# Altium integrated library Micron Memory Mobile LPDRAM.IntLib: 146 symbols (part 12 of 41)
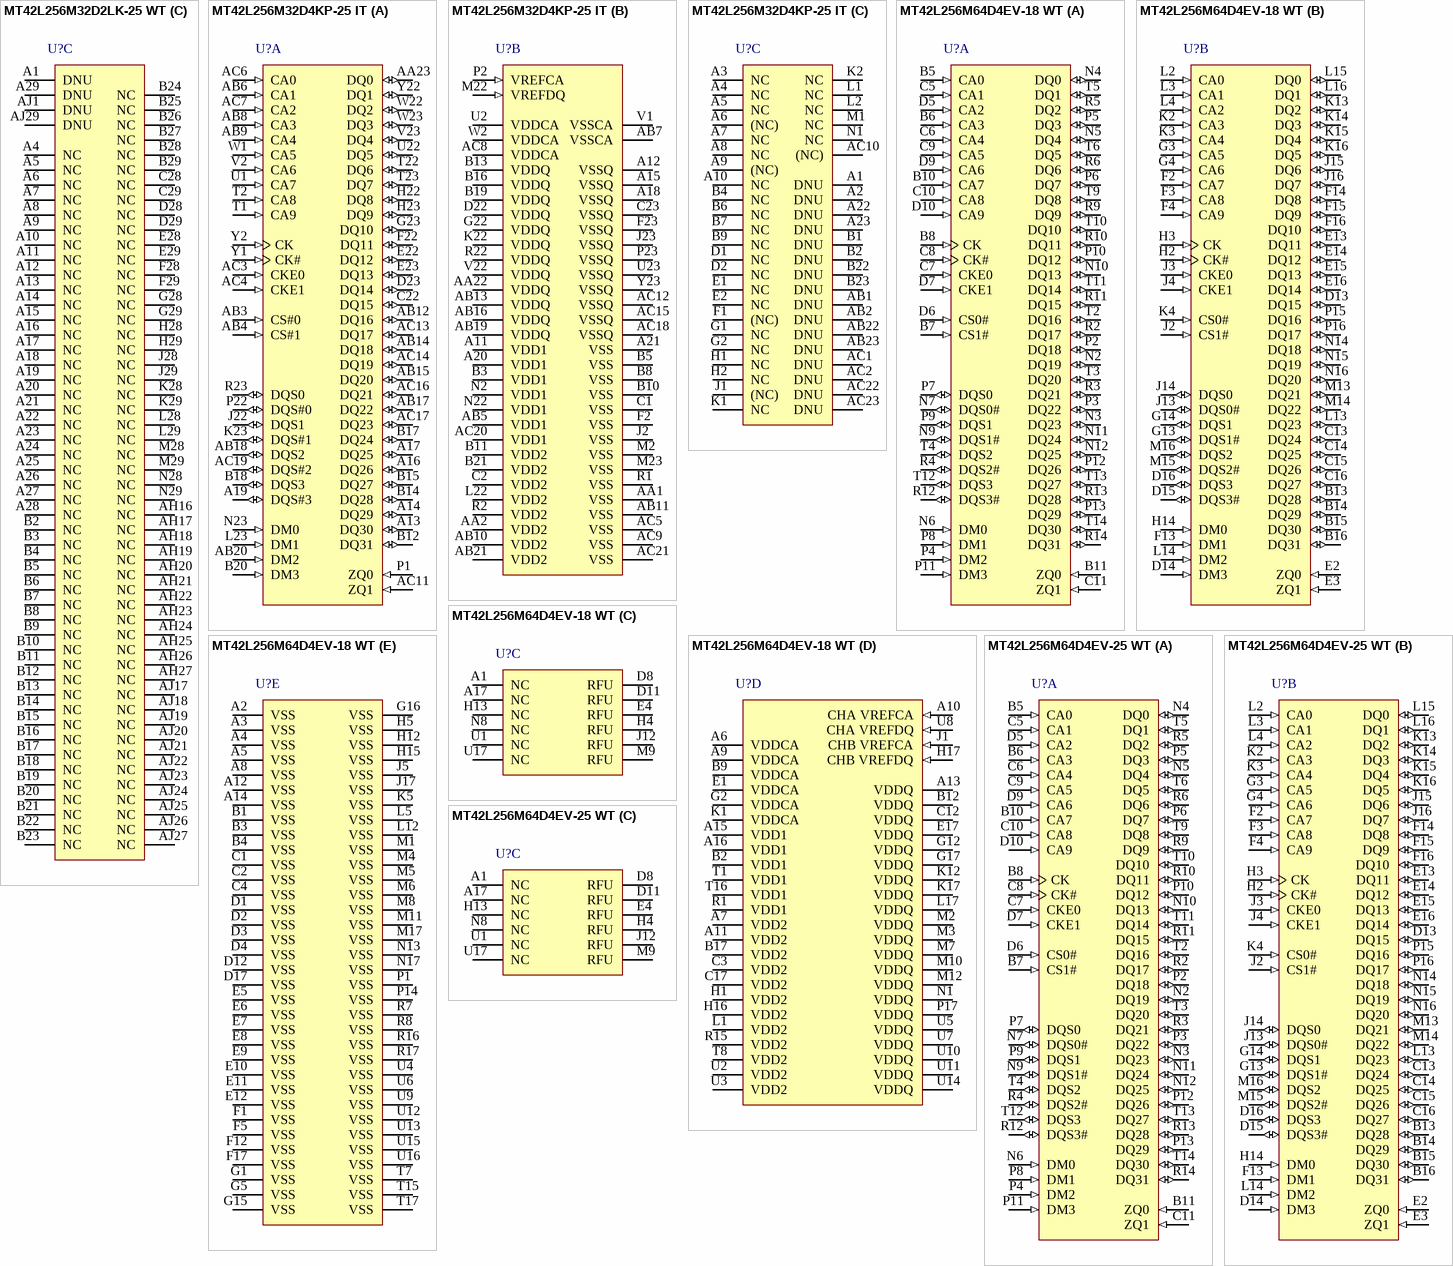
[diagram p35: symbols MT42L256M32D2LK-25 WT to MT42L256M64D4EV-25 WT]

## MT42L256M64D4EV-18 WT
designator U?
16Gb LPDDR2-1066 SDRAM, 256Mb x 64, 1.875ns, 1.2V, -25 to 85 degC, 253-Ball VFBGA, Pb-Free; Manufacturer: Micron; PartNumber: MT42L256M64D4EV-18 WT; Clock Rate: 533 MHz; Op. Temp.: -25C to +85C; DatasheetVersion: Rev.L; PackageVersion: Rev.L; PackageReference: MICT-EV-253; PackageDescription: 253-Ball Fine-Pitch Ball Grid Array, 11 x 11 mm, Pitch 0.5 mm; Cycle Time: 1.875ns; Data Rate: LPDDR2-1066; Density: 16Gb; Depth: 256Mb; Package: VFBGA; Part Status: Sampling; Pin Count: 253-ball; RoHS: Green; Technology: Mobile LPDDR2; Voltage: 1.2V; Width: x64; Mounting Technology: Surface Mount; ComponentLink1Description: Manufacturer URL; ComponentLink1URL: http://www.micron.com/; ComponentLink2Description: Datasheet; ComponentLink2URL: http://www.micron.com/~/media/Documents/Products/Data%20Sheet/DRAM/Mobile%20DRAM/Low-Power%20DRAM/LPDDR2/U80M_4Gb_mobile_lpddr2_s4_sdram.pdf; ComponentLink3Description: Package Specification; ComponentLink3URL: http://www.micron.com/~/media/Documents/Products/Data%20Sheet/DRAM/Mobile%20DRAM/Low-Power%20DRAM/LPDDR2/U80M_4Gb_mobile_lpddr2_s4_sdram.pdf
footprint MICT-EV-253 (BGB, 253-Balls, Body 11x11mm, Pitch 0.5mm)
part A pins: B5 CA0 (in) "Command/address inputs: Provide the command and address inputs according to the command truth table.", B6 CA3 (in) "Command/address inputs: Provide the command and address inputs according to the command truth table.", B7 CS1# (in) "Chip select: CS# is considered part of the command code and is sampled at the rising edge of CK.", B8 CK (in) "Clock: CK and CK# are differential clock inputs. All CA inputs are sampled on both rising and falling edges of CK. CS and CKE inputs are sampled at the rising edge of CK. AC timings are referenced to clock.", B10 CA7 (in) "Command/address inputs: Provide the command and address inputs according to the command truth table.", B11 ZQ0 (in) "External impedance (240 ohm): This signal is used to calibrate the device output impedance.", C5 CA1 (in) "Command/address inputs: Provide the command and address inputs according to the command truth table.", C6 CA4 (in) "Command/address inputs: Provide the command and address inputs according to the command truth table.", C7 CKE0 (in) "Clock enable: CKE HIGH activates and CKE LOW deactivates the internal clock signals, input buffers, and output drivers. Power-saving modes are entered and exited via CKE transitions. CKE is considered part of the command (See Datasheet)", C8 CK# (in) "Clock: CK and CK# are differential clock inputs. All CA inputs are sampled on both rising and falling edges of CK. CS and CKE inputs are sampled at the rising edge of CK. AC timings are referenced to clock.", C9 CA5 (in) "Command/address inputs: Provide the command and address inputs according to the command truth table.", C10 CA8 (in) "Command/address inputs: Provide the command and address inputs according to the command truth table.", C11 ZQ1 (in) "External impedance (240 ohm): This signal is used to calibrate the device output impedance.", D5 CA2 (in) "Command/address inputs: Provide the command and address inputs according to the command truth table.", D6 CS0# (in) "Data strobe: The data strobe is bidirectional (used for read and write data) and complementary (DQS and DQS#). It is edge-aligned output with read data and centered input with write data. DQS[3:0]/DQS[3:0]# is DQS for each (See Datasheet)", D7 CKE1 (in) "Clock enable: CKE HIGH activates and CKE LOW deactivates the internal clock signals, input buffers, and output drivers. Power-saving modes are entered and exited via CKE transitions. CKE is considered part of the command (See Datasheet)", D9 CA6 (in) "Command/address inputs: Provide the command and address inputs according to the command truth table.", D10 CA9 (in) "Command/address inputs: Provide the command and address inputs according to the command truth table.", N2 DQ19 (io) "Data input/output: Bidirectional data bus.", N3 DQ23 (io) "Data input/output: Bidirectional data bus.", N4 DQ0 (io) "Data input/output: Bidirectional data bus.", N5 DQ4 (io) "Data input/output: Bidirectional data bus.", N6 DM0 (in) "Input data mask: DM is an input mask signal for write data. Although DM balls are input-only, the DM loading is designed to match that of DQ and DQS balls. DM[3:0] is DM for each of the four data bytes, respectively.", N7 DQS0# (io) "Data strobe: The data strobe is bidirectional (used for read and write data) and complementary (DQS and DQS#). It is edge-aligned output with read data and centered input with write data. DQS[3:0]/DQS[3:0]# is DQS for each (See Datasheet)", N9 DQS1# (io) "Data strobe: The data strobe is bidirectional (used for read and write data) and complementary (DQS and DQS#). It is edge-aligned output with read data and centered input with write data. DQS[3:0]/DQS[3:0]# is DQS for each (See Datasheet)", N10 DQ13 (io) "Data input/output: Bidirectional data bus.", N11 DQ24 (io) "Data input/output: Bidirectional data bus.", N12 DQ25 (io) "Data input/output: Bidirectional data bus.", P2 DQ18 (io) "Data input/output: Bidirectional data bus.", P3 DQ22 (io) "Data input/output: Bidirectional data bus.", P4 DM2 (in) "Input data mask: DM is an input mask signal for write data. Although DM balls are input-only, the DM loading is designed to match that of DQ and DQS balls. DM[3:0] is DM for each of the four data bytes, respectively.", P5 DQ3 (io) "Data input/output: Bidirectional data bus.", P6 DQ7 (io) "Data input/output: Bidirectional data bus.", P7 DQS0 (io) "Data strobe: The data strobe is bidirectional (used for read and write data) and complementary (DQS and DQS#). It is edge-aligned output with read data and centered input with write data. DQS[3:0]/DQS[3:0]# is DQS for each (See Datasheet)", P8 DM1 (in) "Input data mask: DM is an input mask signal for write data. Although DM balls are input-only, the DM loading is designed to match that of DQ and DQS balls. DM[3:0] is DM for each of the four data bytes, respectively.", P9 DQS1 (io) "Data strobe: The data strobe is bidirectional (used for read and write data) and complementary (DQS and DQS#). It is edge-aligned output with read data and centered input with write data. DQS[3:0]/DQS[3:0]# is DQS for each (See Datasheet)", P10 DQ12 (io) "Data input/output: Bidirectional data bus.", P11 DM3 (in) "Input data mask: DM is an input mask signal for write data. Although DM balls are input-only, the DM loading is designed to match that of DQ and DQS balls. DM[3:0] is DM for each of the four data bytes, respectively.", P12 DQ26 (io) "Data input/output: Bidirectional data bus.", P13 DQ29 (io) "Data input/output: Bidirectional data bus.", R2 DQ17 (io) "Data input/output: Bidirectional data bus.", R3 DQ21 (io) "Data input/output: Bidirectional data bus.", R4 DQS2# (io) "Data strobe: The data strobe is bidirectional (used for read and write data) and complementary (DQS and DQS#). It is edge-aligned output with read data and centered input with write data. DQS[3:0]/DQS[3:0]# is DQS for each (See Datasheet)", R5 DQ2 (io) "Data input/output: Bidirectional data bus.", R6 DQ6 (io) "Data input/output: Bidirectional data bus.", R9 DQ9 (io) "Data input/output: Bidirectional data bus.", R10 DQ11 (io) "Data input/output: Bidirectional data bus.", R11 DQ15 (io) "Data input/output: Bidirectional data bus.", R12 DQS3# (io) "Data strobe: The data strobe is bidirectional (used for read and write data) and complementary (DQS and DQS#). It is edge-aligned output with read data and centered input with write data. DQS[3:0]/DQS[3:0]# is DQS for each (See Datasheet)", R13 DQ28 (io) "Data input/output: Bidirectional data bus.", R14 DQ31 (io) "Data input/output: Bidirectional data bus.", T2 DQ16 (io) "Data input/output: Bidirectional data bus.", T3 DQ20 (io) "Data input/output: Bidirectional data bus.", T4 DQS2 (io) "Data strobe: The data strobe is bidirectional (used for read and write data) and complementary (DQS and DQS#). It is edge-aligned output with read data and centered input with write data. DQS[3:0]/DQS[3:0]# is DQS for each (See Datasheet)", T5 DQ1 (io) "Data input/output: Bidirectional data bus.", T6 DQ5 (io) "Data input/output: Bidirectional data bus.", T9 DQ8 (io) "Data input/output: Bidirectional data bus.", T10 DQ10 (io) "Data input/output: Bidirectional data bus.", T11 DQ14 (io) "Data input/output: Bidirectional data bus.", T12 DQS3 (io) "Data strobe: The data strobe is bidirectional (used for read and write data) and complementary (DQS and DQS#). It is edge-aligned output with read data and centered input with write data. DQS[3:0]/DQS[3:0]# is DQS for each (See Datasheet)", T13 DQ27 (io) "Data input/output: Bidirectional data bus.", T14 DQ30 (io) "Data input/output: Bidirectional data bus."
part B pins: B13 DQ28 (io) "Data input/output: Bidirectional data bus.", B14 DQ29 (io) "Data input/output: Bidirectional data bus.", B15 DQ30 (io) "Data input/output: Bidirectional data bus.", B16 DQ31 (io) "Data input/output: Bidirectional data bus.", C13 DQ24 (io) "Data input/output: Bidirectional data bus.", C14 DQ25 (io) "Data input/output: Bidirectional data bus.", C15 DQ26 (io) "Data input/output: Bidirectional data bus.", C16 DQ27 (io) "Data input/output: Bidirectional data bus.", D13 DQ15 (io) "Data input/output: Bidirectional data bus.", D14 DM3 (in) "Input data mask: DM is an input mask signal for write data. Although DM balls are input-only, the DM loading is designed to match that of DQ and DQS balls. DM[3:0] is DM for each of the four data bytes, respectively.", D15 DQS3# (io) "Data strobe: The data strobe is bidirectional (used for read and write data) and complementary (DQS and DQS#). It is edge-aligned output with read data and centered input with write data. DQS[3:0]/DQS[3:0]# is DQS for each (See Datasheet)", D16 DQS3 (io) "Data strobe: The data strobe is bidirectional (used for read and write data) and complementary (DQS and DQS#). It is edge-aligned output with read data and centered input with write data. DQS[3:0]/DQS[3:0]# is DQS for each (See Datasheet)", E2 ZQ0 (in) "External impedance (240 ohm): This signal is used to calibrate the device output impedance.", E3 ZQ1 (in) "External impedance (240 ohm): This signal is used to calibrate the device output impedance.", E13 DQ11 (io) "Data input/output: Bidirectional data bus.", E14 DQ12 (io) "Data input/output: Bidirectional data bus.", E15 DQ13 (io) "Data input/output: Bidirectional data bus.", E16 DQ14 (io) "Data input/output: Bidirectional data bus.", F2 CA7 (in) "Command/address inputs: Provide the command and address inputs according to the command truth table.", F3 CA8 (in) "Command/address inputs: Provide the command and address inputs according to the command truth table.", F4 CA9 (in) "Command/address inputs: Provide the command and address inputs according to the command truth table.", F13 DM1 (in) "Input data mask: DM is an input mask signal for write data. Although DM balls are input-only, the DM loading is designed to match that of DQ and DQS balls. DM[3:0] is DM for each of the four data bytes, respectively.", F14 DQ8 (io) "Data input/output: Bidirectional data bus.", F15 DQ9 (io) "Data input/output: Bidirectional data bus.", F16 DQ10 (io) "Data input/output: Bidirectional data bus.", G3 CA5 (in) "Command/address inputs: Provide the command and address inputs according to the command truth table.", G4 CA6 (in) "Command/address inputs: Provide the command and address inputs according to the command truth table.", G13 DQS1# (io) "Data strobe: The data strobe is bidirectional (used for read and write data) and complementary (DQS and DQS#). It is edge-aligned output with read data and centered input with write data. DQS[3:0]/DQS[3:0]# is DQS for each (See Datasheet)", G14 DQS1 (io) "Data strobe: The data strobe is bidirectional (used for read and write data) and complementary (DQS and DQS#). It is edge-aligned output with read data and centered input with write data. DQS[3:0]/DQS[3:0]# is DQS for each (See Datasheet)", H2 CK# (in) "Clock: CK and CK# are differential clock inputs. All CA inputs are sampled on both rising and falling edges of CK. CS and CKE inputs are sampled at the rising edge of CK. AC timings are referenced to clock.", H3 CK (in) "Clock: CK and CK# are differential clock inputs. All CA inputs are sampled on both rising and falling edges of CK. CS and CKE inputs are sampled at the rising edge of CK. AC timings are referenced to clock.", H14 DM0 (in) "Input data mask: DM is an input mask signal for write data. Although DM balls are input-only, the DM loading is designed to match that of DQ and DQS balls. DM[3:0] is DM for each of the four data bytes, respectively.", J2 CS1# (in) "Chip select: CS# is considered part of the command code and is sampled at the rising edge of CK.", J3 CKE0 (in) "Clock enable: CKE HIGH activates and CKE LOW deactivates the internal clock signals, input buffers, and output drivers. Power-saving modes are entered and exited via CKE transitions. CKE is considered part of the command (See Datasheet)", J4 CKE1 (in) "Clock enable: CKE HIGH activates and CKE LOW deactivates the internal clock signals, input buffers, and output drivers. Power-saving modes are entered and exited via CKE transitions. CKE is considered part of the command (See Datasheet)", J13 DQS0# (io) "Data strobe: The data strobe is bidirectional (used for read and write data) and complementary (DQS and DQS#). It is edge-aligned output with read data and centered input with write data. DQS[3:0]/DQS[3:0]# is DQS for each (See Datasheet)", J14 DQS0 (io) "Data strobe: The data strobe is bidirectional (used for read and write data) and complementary (DQS and DQS#). It is edge-aligned output with read data and centered input with write data. DQS[3:0]/DQS[3:0]# is DQS for each (See Datasheet)", J15 DQ6 (io) "Data input/output: Bidirectional data bus.", J16 DQ7 (io) "Data input/output: Bidirectional data bus.", K2 CA3 (in) "Command/address inputs: Provide the command and address inputs according to the command truth table.", K3 CA4 (in) "Command/address inputs: Provide the command and address inputs according to the command truth table.", K4 CS0# (in) "Chip select: CS# is considered part of the command code and is sampled at the rising edge of CK.", K13 DQ2 (io) "Data input/output: Bidirectional data bus.", K14 DQ3 (io) "Data input/output: Bidirectional data bus.", K15 DQ4 (io) "Data input/output: Bidirectional data bus.", K16 DQ5 (io) "Data input/output: Bidirectional data bus.", L2 CA0 (in) "Command/address inputs: Provide the command and address inputs according to the command truth table.", L3 CA1 (in) "Command/address inputs: Provide the command and address inputs according to the command truth table.", L4 CA2 (in) "Command/address inputs: Provide the command and address inputs according to the command truth table.", L13 DQ23 (io) "Data input/output: Bidirectional data bus.", L14 DM2 (in) "Input data mask: DM is an input mask signal for write data. Although DM balls are input-only, the DM loading is designed to match that of DQ and DQS balls. DM[3:0] is DM for each of the four data bytes, respectively.", L15 DQ0 (io) "Data input/output: Bidirectional data bus.", L16 DQ1 (io) "Data input/output: Bidirectional data bus.", M13 DQ21 (io) "Data input/output: Bidirectional data bus.", M14 DQ22 (io) "Data input/output: Bidirectional data bus.", M15 DQS2# (io) "Data strobe: The data strobe is bidirectional (used for read and write data) and complementary (DQS and DQS#). It is edge-aligned output with read data and centered input with write data. DQS[3:0]/DQS[3:0]# is DQS for each (See Datasheet)", M16 DQS2 (io) "Data strobe: The data strobe is bidirectional (used for read and write data) and complementary (DQS and DQS#). It is edge-aligned output with read data and centered input with write data. DQS[3:0]/DQS[3:0]# is DQS for each (See Datasheet)", N14 DQ18 (io) "Data input/output: Bidirectional data bus.", N15 DQ19 (io) "Data input/output: Bidirectional data bus.", N16 DQ20 (io) "Data input/output: Bidirectional data bus.", P15 DQ16 (io) "Data input/output: Bidirectional data bus.", P16 DQ17 (io) "Data input/output: Bidirectional data bus."
part C pins: A1 NC "No connect: Not internally connected.", A17 NC "No connect: Not internally connected.", D8 RFU, D11 RFU, E4 RFU, H4 RFU, H13 NC "No connect: Not internally connected.", J12 RFU, M9 RFU, N8 NC "No connect: Not internally connected.", U1 NC "No connect: Not internally connected.", U17 NC "No connect: Not internally connected."
part D pins: A6 VDDCA (power) "Command/address power supply: Command/address power supply.", A7 VDD2 (power) "Core power: Supply 2.", A9 VDDCA (power) "Command/address power supply: Command/address power supply.", A10 CHA VREFCA (in) "Reference voltage: VREFCA is reference for command/address input buffers, VREFDQ is reference for DQ input buffers.", A11 VDD2 (power) "Core power: Supply 2.", A13 VDDQ (power) "DQ power supply: Isolated on the die for improved noise immunity.", A15 VDD1 (power) "Core power: Supply 1.", A16 VDD1 (power) "Core power: Supply 1.", B2 VDD1 (power) "Core power: Supply 1.", B9 VDDCA (power) "Command/address power supply: Command/address power supply.", B12 VDDQ (power) "DQ power supply: Isolated on the die for improved noise immunity.", B17 VDD2 (power) "Core power: Supply 2.", C3 VDD2 (power) "Core power: Supply 2.", C12 VDDQ (power) "DQ power supply: Isolated on the die for improved noise immunity.", C17 VDD2 (power) "Core power: Supply 2.", E1 VDDCA (power) "Command/address power supply: Command/address power supply.", E17 VDDQ (power) "DQ power supply: Isolated on the die for improved noise immunity.", G2 VDDCA (power) "Command/address power supply: Command/address power supply.", G12 VDDQ (power) "DQ power supply: Isolated on the die for improved noise immunity.", G17 VDDQ (power) "DQ power supply: Isolated on the die for improved noise immunity.", H1 VDD2 (power) "Core power: Supply 2.", H16 VDD2 (power) "Core power: Supply 2.", H17 CHB VREFDQ (in) "Reference voltage: VREFCA is reference for command/address input buffers, VREFDQ is reference for DQ input buffers.", J1 CHB VREFCA (in) "Reference voltage: VREFCA is reference for command/address input buffers, VREFDQ is reference for DQ input buffers.", K1 VDDCA (power) "Command/address power supply: Command/address power supply", K12 VDDQ (power) "DQ power supply: Isolated on the die for improved noise immunity.", K17 VDDQ (power) "DQ power supply: Isolated on the die for improved noise immunity.", L1 VDD2 (power) "Core power: Supply 2.", L17 VDDQ (power) "DQ power supply: Isolated on the die for improved noise immunity.", M2 VDDQ (power) "DQ power supply: Isolated on the die for improved noise immunity.", M3 VDDQ (power) "DQ power supply: Isolated on the die for improved noise immunity.", M7 VDDQ (power) "DQ power supply: Isolated on the die for improved noise immunity.", M10 VDDQ (power) "DQ power supply: Isolated on the die for improved noise immunity.", M12 VDDQ (power) "DQ power supply: Isolated on the die for improved noise immunity.", N1 VDDQ (power) "DQ power supply: Isolated on the die for improved noise immunity.", P17 VDDQ (power) "DQ power supply: Isolated on the die for improved noise immunity.", R1 VDD1 (power) "Core power: Supply 1.", R15 VDD2 (power) "Core power: Supply 2.", T1 VDD1 (power) "Core power: Supply 1.", T8 VDD2 (power) "Core power: Supply 2.", T16 VDD1 (power) "Core power: Supply 1.", U2 VDD2 (power) "Core power: Supply 2.", U3 VDD2 (power) "Core power: Supply 2.", U5 VDDQ (power) "DQ power supply: Isolated on the die for improved noise immunity.", U7 VDDQ (power) "DQ power supply: Isolated on the die for improved noise immunity.", U8 CHA VREFDQ (in) "Reference voltage: VREFCA is reference for command/address input buffers, VREFDQ is reference for DQ input buffers.", U10 VDDQ (power) "DQ power supply: Isolated on the die for improved noise immunity.", U11 VDDQ (power) "DQ power supply: Isolated on the die for improved noise immunity.", U14 VDDQ (power) "DQ power supply: Isolated on the die for improved noise immunity."
part E pins: A2 VSS (power) "Common ground", A3 VSS (power) "Common ground", A4 VSS (power) "Common ground", A5 VSS (power) "Common ground", A8 VSS (power) "Common ground", A12 VSS (power) "Common ground", A14 VSS (power) "Common ground", B1 VSS (power) "Common ground", B3 VSS (power) "Common ground", B4 VSS (power) "Common ground", C1 VSS (power) "Common ground", C2 VSS (power) "Common ground", C4 VSS (power) "Common ground", D1 VSS (power) "Common ground", D2 VSS (power) "Common ground", D3 VSS (power) "Common ground", D4 VSS (power) "Common ground", D12 VSS (power) "Common ground", D17 VSS (power) "Common ground", E5 VSS (power) "Common ground", E6 VSS (power) "Common ground", E7 VSS (power) "Common ground", E8 VSS (power) "Common ground", E9 VSS (power) "Common ground", E10 VSS (power) "Common ground", E11 VSS (power) "Common ground", E12 VSS (power) "Common ground", F1 VSS (power) "Common ground", F5 VSS (power) "Common ground", F12 VSS (power) "Common ground", F17 VSS (power) "Common ground", G1 VSS (power) "Common ground", G5 VSS (power) "Common ground", G15 VSS (power) "Common ground", G16 VSS (power) "Common ground", H5 VSS (power) "Common ground", H12 VSS (power) "Common ground", H15 VSS (power) "Common ground", J5 VSS (power) "Common ground", J17 VSS (power) "Common ground", K5 VSS (power) "Common ground", L5 VSS (power) "Common ground", L12 VSS (power) "Common ground", M1 VSS (power) "Common ground", M4 VSS (power) "Common ground", M5 VSS (power) "Common ground", M6 VSS (power) "Common ground", M8 VSS (power) "Common ground", M11 VSS (power) "Common ground", M17 VSS (power) "Common ground", N13 VSS (power) "Common ground", N17 VSS (power) "Common ground", P1 VSS (power) "Common ground", P14 VSS (power) "Common ground", R7 VSS (power) "Common ground", R8 VSS (power) "Common ground", R16 VSS (power) "Common ground", R17 VSS (power) "Common ground", T7 VSS (power) "Common ground", T15 VSS (power) "Common ground", T17 VSS (power) "Common ground", U4 VSS (power) "Common ground", U6 VSS (power) "Common ground", U9 VSS (power) "Common ground", U12 VSS (power) "Common ground", U13 VSS (power) "Common ground", U15 VSS (power) "Common ground", U16 VSS (power) "Common ground"

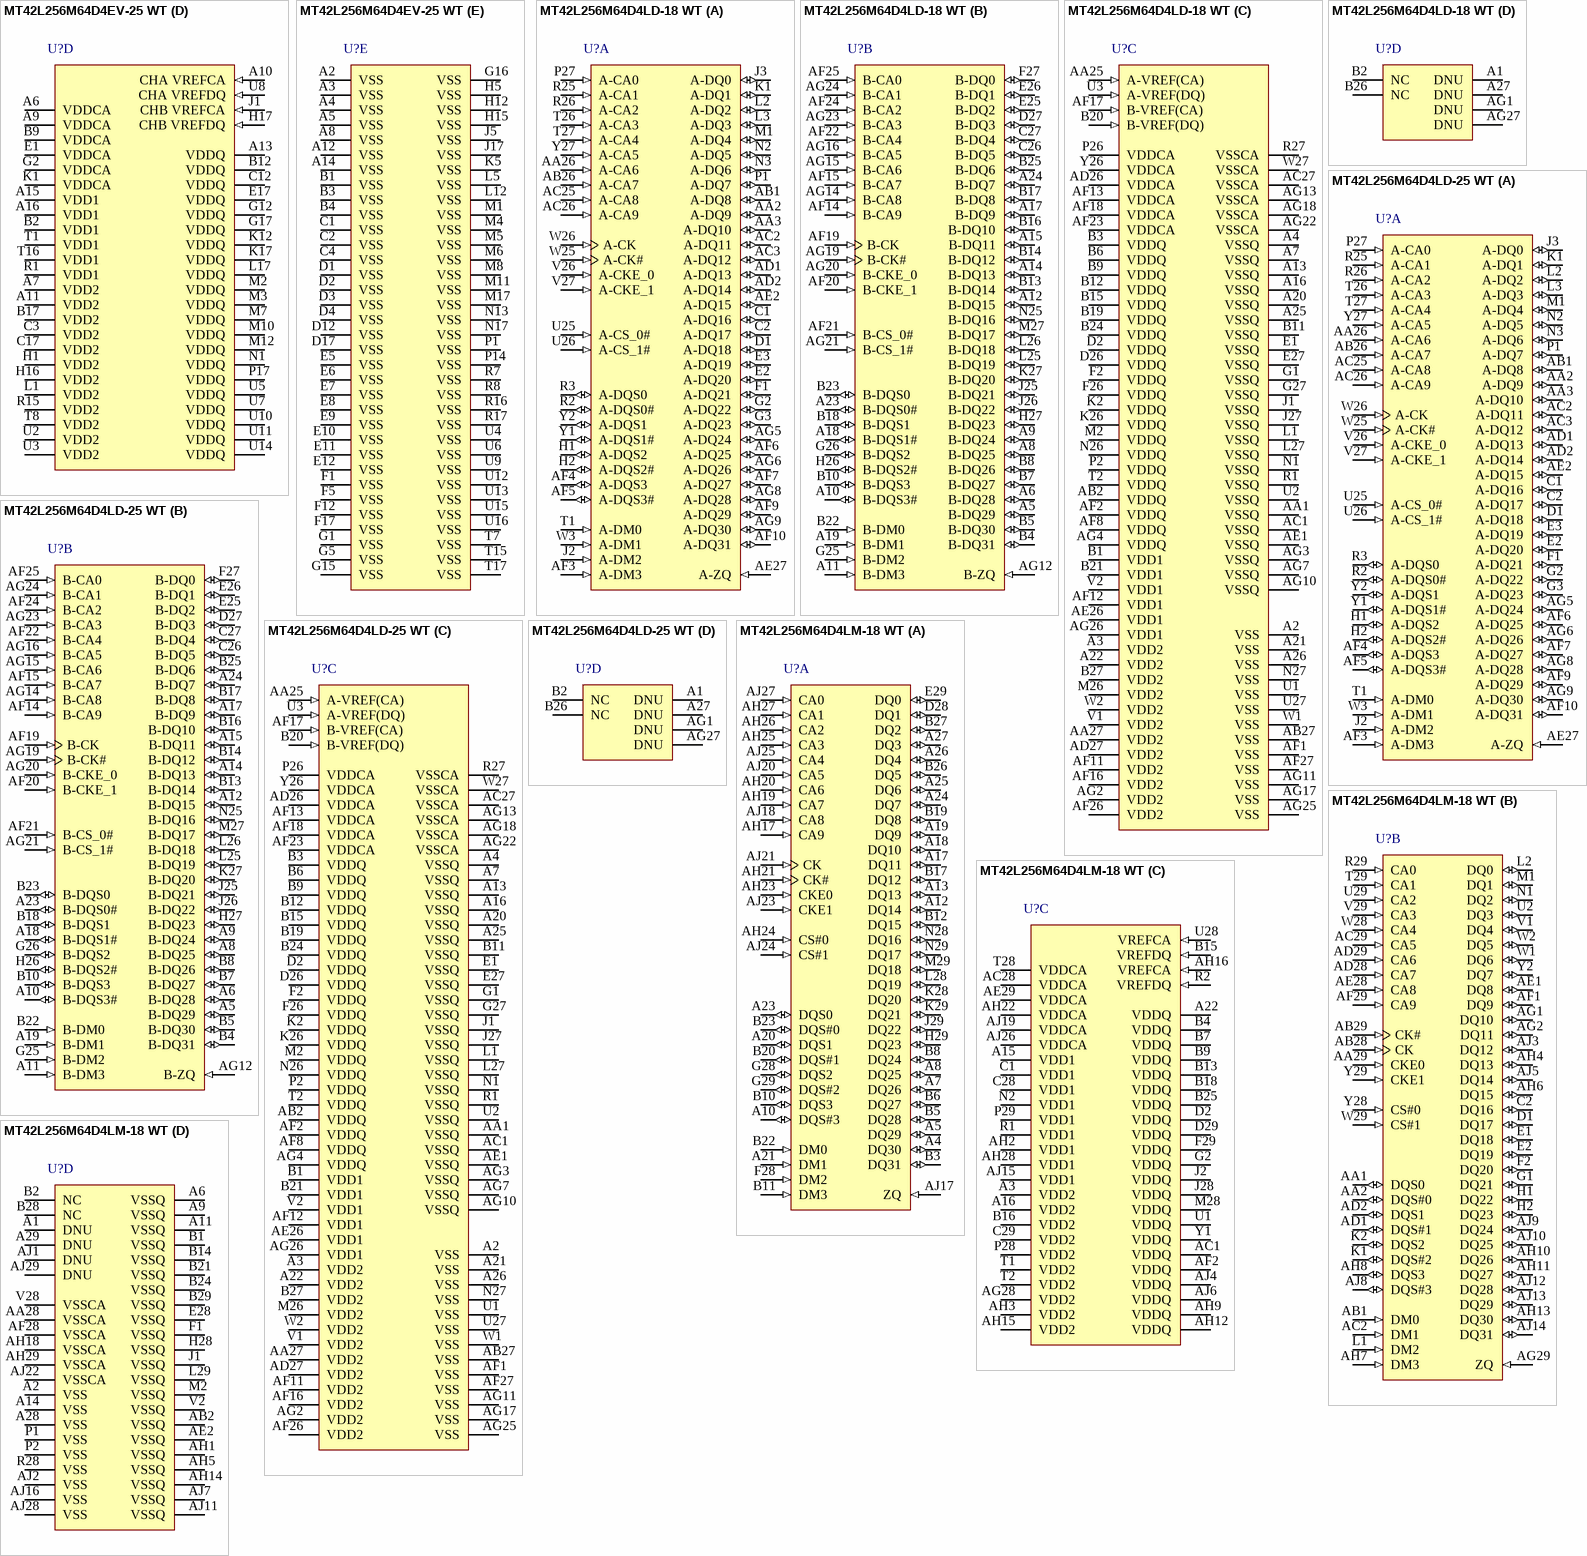
[diagram p8: symbols MT42L256M64D4EV-25 WT to MT42L256M64D4LM-18 WT]

## MT42L256M64D4EV-25 WT
designator U?
16Gb LPDDR2-800 SDRAM, 256Mb x 64, 2.5ns, 1.2V, -25 to 85 degC, 253-Ball VFBGA, Pb-Free; Manufacturer: Micron; PartNumber: MT42L256M64D4EV-25 WT; Clock Rate: 400 MHz; Op. Temp.: -25C to +85C; DatasheetVersion: Rev.L; PackageVersion: Rev.L; PackageReference: MICT-EV-253; PackageDescription: 253-Ball Fine-Pitch Ball Grid Array, 11 x 11 mm, Pitch 0.5 mm; Cycle Time: 2.5ns; Data Rate: LPDDR2-800; Density: 16Gb; Depth: 256Mb; Package: VFBGA; Part Status: Sampling; Pin Count: 253-ball; RoHS: Green; Technology: Mobile LPDDR2; Voltage: 1.2V; Width: x64; Mounting Technology: Surface Mount; ComponentLink1Description: Manufacturer URL; ComponentLink1URL: http://www.micron.com/; ComponentLink2Description: Datasheet; ComponentLink2URL: http://www.micron.com/~/media/Documents/Products/Data%20Sheet/DRAM/Mobile%20DRAM/Low-Power%20DRAM/LPDDR2/U80M_4Gb_mobile_lpddr2_s4_sdram.pdf; ComponentLink3Description: Package Specification; ComponentLink3URL: http://www.micron.com/~/media/Documents/Products/Data%20Sheet/DRAM/Mobile%20DRAM/Low-Power%20DRAM/LPDDR2/U80M_4Gb_mobile_lpddr2_s4_sdram.pdf
footprint MICT-EV-253 (BGB, 253-Balls, Body 11x11mm, Pitch 0.5mm)
part A pins: B5 CA0 (in) "Command/address inputs: Provide the command and address inputs according to the command truth table.", B6 CA3 (in) "Command/address inputs: Provide the command and address inputs according to the command truth table.", B7 CS1# (in) "Chip select: CS# is considered part of the command code and is sampled at the rising edge of CK.", B8 CK (in) "Clock: CK and CK# are differential clock inputs. All CA inputs are sampled on both rising and falling edges of CK. CS and CKE inputs are sampled at the rising edge of CK. AC timings are referenced to clock.", B10 CA7 (in) "Command/address inputs: Provide the command and address inputs according to the command truth table.", B11 ZQ0 (in) "External impedance (240 ohm): This signal is used to calibrate the device output impedance.", C5 CA1 (in) "Command/address inputs: Provide the command and address inputs according to the command truth table.", C6 CA4 (in) "Command/address inputs: Provide the command and address inputs according to the command truth table.", C7 CKE0 (in) "Clock enable: CKE HIGH activates and CKE LOW deactivates the internal clock signals, input buffers, and output drivers. Power-saving modes are entered and exited via CKE transitions. CKE is considered part of the command (See Datasheet)", C8 CK# (in) "Clock: CK and CK# are differential clock inputs. All CA inputs are sampled on both rising and falling edges of CK. CS and CKE inputs are sampled at the rising edge of CK. AC timings are referenced to clock.", C9 CA5 (in) "Command/address inputs: Provide the command and address inputs according to the command truth table.", C10 CA8 (in) "Command/address inputs: Provide the command and address inputs according to the command truth table.", C11 ZQ1 (in) "External impedance (240 ohm): This signal is used to calibrate the device output impedance.", D5 CA2 (in) "Command/address inputs: Provide the command and address inputs according to the command truth table.", D6 CS0# (in) "Data strobe: The data strobe is bidirectional (used for read and write data) and complementary (DQS and DQS#). It is edge-aligned output with read data and centered input with write data. DQS[3:0]/DQS[3:0]# is DQS for each (See Datasheet)", D7 CKE1 (in) "Clock enable: CKE HIGH activates and CKE LOW deactivates the internal clock signals, input buffers, and output drivers. Power-saving modes are entered and exited via CKE transitions. CKE is considered part of the command (See Datasheet)", D9 CA6 (in) "Command/address inputs: Provide the command and address inputs according to the command truth table.", D10 CA9 (in) "Command/address inputs: Provide the command and address inputs according to the command truth table.", N2 DQ19 (io) "Data input/output: Bidirectional data bus.", N3 DQ23 (io) "Data input/output: Bidirectional data bus.", N4 DQ0 (io) "Data input/output: Bidirectional data bus.", N5 DQ4 (io) "Data input/output: Bidirectional data bus.", N6 DM0 (in) "Input data mask: DM is an input mask signal for write data. Although DM balls are input-only, the DM loading is designed to match that of DQ and DQS balls. DM[3:0] is DM for each of the four data bytes, respectively.", N7 DQS0# (io) "Data strobe: The data strobe is bidirectional (used for read and write data) and complementary (DQS and DQS#). It is edge-aligned output with read data and centered input with write data. DQS[3:0]/DQS[3:0]# is DQS for each (See Datasheet)", N9 DQS1# (io) "Data strobe: The data strobe is bidirectional (used for read and write data) and complementary (DQS and DQS#). It is edge-aligned output with read data and centered input with write data. DQS[3:0]/DQS[3:0]# is DQS for each (See Datasheet)", N10 DQ13 (io) "Data input/output: Bidirectional data bus.", N11 DQ24 (io) "Data input/output: Bidirectional data bus.", N12 DQ25 (io) "Data input/output: Bidirectional data bus.", P2 DQ18 (io) "Data input/output: Bidirectional data bus.", P3 DQ22 (io) "Data input/output: Bidirectional data bus.", P4 DM2 (in) "Input data mask: DM is an input mask signal for write data. Although DM balls are input-only, the DM loading is designed to match that of DQ and DQS balls. DM[3:0] is DM for each of the four data bytes, respectively.", P5 DQ3 (io) "Data input/output: Bidirectional data bus.", P6 DQ7 (io) "Data input/output: Bidirectional data bus.", P7 DQS0 (io) "Data strobe: The data strobe is bidirectional (used for read and write data) and complementary (DQS and DQS#). It is edge-aligned output with read data and centered input with write data. DQS[3:0]/DQS[3:0]# is DQS for each (See Datasheet)", P8 DM1 (in) "Input data mask: DM is an input mask signal for write data. Although DM balls are input-only, the DM loading is designed to match that of DQ and DQS balls. DM[3:0] is DM for each of the four data bytes, respectively.", P9 DQS1 (io) "Data strobe: The data strobe is bidirectional (used for read and write data) and complementary (DQS and DQS#). It is edge-aligned output with read data and centered input with write data. DQS[3:0]/DQS[3:0]# is DQS for each (See Datasheet)", P10 DQ12 (io) "Data input/output: Bidirectional data bus.", P11 DM3 (in) "Input data mask: DM is an input mask signal for write data. Although DM balls are input-only, the DM loading is designed to match that of DQ and DQS balls. DM[3:0] is DM for each of the four data bytes, respectively.", P12 DQ26 (io) "Data input/output: Bidirectional data bus.", P13 DQ29 (io) "Data input/output: Bidirectional data bus.", R2 DQ17 (io) "Data input/output: Bidirectional data bus.", R3 DQ21 (io) "Data input/output: Bidirectional data bus.", R4 DQS2# (io) "Data strobe: The data strobe is bidirectional (used for read and write data) and complementary (DQS and DQS#). It is edge-aligned output with read data and centered input with write data. DQS[3:0]/DQS[3:0]# is DQS for each (See Datasheet)", R5 DQ2 (io) "Data input/output: Bidirectional data bus.", R6 DQ6 (io) "Data input/output: Bidirectional data bus.", R9 DQ9 (io) "Data input/output: Bidirectional data bus.", R10 DQ11 (io) "Data input/output: Bidirectional data bus.", R11 DQ15 (io) "Data input/output: Bidirectional data bus.", R12 DQS3# (io) "Data strobe: The data strobe is bidirectional (used for read and write data) and complementary (DQS and DQS#). It is edge-aligned output with read data and centered input with write data. DQS[3:0]/DQS[3:0]# is DQS for each (See Datasheet)", R13 DQ28 (io) "Data input/output: Bidirectional data bus.", R14 DQ31 (io) "Data input/output: Bidirectional data bus.", T2 DQ16 (io) "Data input/output: Bidirectional data bus.", T3 DQ20 (io) "Data input/output: Bidirectional data bus.", T4 DQS2 (io) "Data strobe: The data strobe is bidirectional (used for read and write data) and complementary (DQS and DQS#). It is edge-aligned output with read data and centered input with write data. DQS[3:0]/DQS[3:0]# is DQS for each (See Datasheet)", T5 DQ1 (io) "Data input/output: Bidirectional data bus.", T6 DQ5 (io) "Data input/output: Bidirectional data bus.", T9 DQ8 (io) "Data input/output: Bidirectional data bus.", T10 DQ10 (io) "Data input/output: Bidirectional data bus.", T11 DQ14 (io) "Data input/output: Bidirectional data bus.", T12 DQS3 (io) "Data strobe: The data strobe is bidirectional (used for read and write data) and complementary (DQS and DQS#). It is edge-aligned output with read data and centered input with write data. DQS[3:0]/DQS[3:0]# is DQS for each (See Datasheet)", T13 DQ27 (io) "Data input/output: Bidirectional data bus.", T14 DQ30 (io) "Data input/output: Bidirectional data bus."
part B pins: B13 DQ28 (io) "Data input/output: Bidirectional data bus.", B14 DQ29 (io) "Data input/output: Bidirectional data bus.", B15 DQ30 (io) "Data input/output: Bidirectional data bus.", B16 DQ31 (io) "Data input/output: Bidirectional data bus.", C13 DQ24 (io) "Data input/output: Bidirectional data bus.", C14 DQ25 (io) "Data input/output: Bidirectional data bus.", C15 DQ26 (io) "Data input/output: Bidirectional data bus.", C16 DQ27 (io) "Data input/output: Bidirectional data bus.", D13 DQ15 (io) "Data input/output: Bidirectional data bus.", D14 DM3 (in) "Input data mask: DM is an input mask signal for write data. Although DM balls are input-only, the DM loading is designed to match that of DQ and DQS balls. DM[3:0] is DM for each of the four data bytes, respectively.", D15 DQS3# (io) "Data strobe: The data strobe is bidirectional (used for read and write data) and complementary (DQS and DQS#). It is edge-aligned output with read data and centered input with write data. DQS[3:0]/DQS[3:0]# is DQS for each (See Datasheet)", D16 DQS3 (io) "Data strobe: The data strobe is bidirectional (used for read and write data) and complementary (DQS and DQS#). It is edge-aligned output with read data and centered input with write data. DQS[3:0]/DQS[3:0]# is DQS for each (See Datasheet)", E2 ZQ0 (in) "External impedance (240 ohm): This signal is used to calibrate the device output impedance.", E3 ZQ1 (in) "External impedance (240 ohm): This signal is used to calibrate the device output impedance.", E13 DQ11 (io) "Data input/output: Bidirectional data bus.", E14 DQ12 (io) "Data input/output: Bidirectional data bus.", E15 DQ13 (io) "Data input/output: Bidirectional data bus.", E16 DQ14 (io) "Data input/output: Bidirectional data bus.", F2 CA7 (in) "Command/address inputs: Provide the command and address inputs according to the command truth table.", F3 CA8 (in) "Command/address inputs: Provide the command and address inputs according to the command truth table.", F4 CA9 (in) "Command/address inputs: Provide the command and address inputs according to the command truth table.", F13 DM1 (in) "Input data mask: DM is an input mask signal for write data. Although DM balls are input-only, the DM loading is designed to match that of DQ and DQS balls. DM[3:0] is DM for each of the four data bytes, respectively.", F14 DQ8 (io) "Data input/output: Bidirectional data bus.", F15 DQ9 (io) "Data input/output: Bidirectional data bus.", F16 DQ10 (io) "Data input/output: Bidirectional data bus.", G3 CA5 (in) "Command/address inputs: Provide the command and address inputs according to the command truth table.", G4 CA6 (in) "Command/address inputs: Provide the command and address inputs according to the command truth table.", G13 DQS1# (io) "Data strobe: The data strobe is bidirectional (used for read and write data) and complementary (DQS and DQS#). It is edge-aligned output with read data and centered input with write data. DQS[3:0]/DQS[3:0]# is DQS for each (See Datasheet)", G14 DQS1 (io) "Data strobe: The data strobe is bidirectional (used for read and write data) and complementary (DQS and DQS#). It is edge-aligned output with read data and centered input with write data. DQS[3:0]/DQS[3:0]# is DQS for each (See Datasheet)", H2 CK# (in) "Clock: CK and CK# are differential clock inputs. All CA inputs are sampled on both rising and falling edges of CK. CS and CKE inputs are sampled at the rising edge of CK. AC timings are referenced to clock.", H3 CK (in) "Clock: CK and CK# are differential clock inputs. All CA inputs are sampled on both rising and falling edges of CK. CS and CKE inputs are sampled at the rising edge of CK. AC timings are referenced to clock.", H14 DM0 (in) "Input data mask: DM is an input mask signal for write data. Although DM balls are input-only, the DM loading is designed to match that of DQ and DQS balls. DM[3:0] is DM for each of the four data bytes, respectively.", J2 CS1# (in) "Chip select: CS# is considered part of the command code and is sampled at the rising edge of CK.", J3 CKE0 (in) "Clock enable: CKE HIGH activates and CKE LOW deactivates the internal clock signals, input buffers, and output drivers. Power-saving modes are entered and exited via CKE transitions. CKE is considered part of the command (See Datasheet)", J4 CKE1 (in) "Clock enable: CKE HIGH activates and CKE LOW deactivates the internal clock signals, input buffers, and output drivers. Power-saving modes are entered and exited via CKE transitions. CKE is considered part of the command (See Datasheet)", J13 DQS0# (io) "Data strobe: The data strobe is bidirectional (used for read and write data) and complementary (DQS and DQS#). It is edge-aligned output with read data and centered input with write data. DQS[3:0]/DQS[3:0]# is DQS for each (See Datasheet)", J14 DQS0 (io) "Data strobe: The data strobe is bidirectional (used for read and write data) and complementary (DQS and DQS#). It is edge-aligned output with read data and centered input with write data. DQS[3:0]/DQS[3:0]# is DQS for each (See Datasheet)", J15 DQ6 (io) "Data input/output: Bidirectional data bus.", J16 DQ7 (io) "Data input/output: Bidirectional data bus.", K2 CA3 (in) "Command/address inputs: Provide the command and address inputs according to the command truth table.", K3 CA4 (in) "Command/address inputs: Provide the command and address inputs according to the command truth table.", K4 CS0# (in) "Chip select: CS# is considered part of the command code and is sampled at the rising edge of CK.", K13 DQ2 (io) "Data input/output: Bidirectional data bus.", K14 DQ3 (io) "Data input/output: Bidirectional data bus.", K15 DQ4 (io) "Data input/output: Bidirectional data bus.", K16 DQ5 (io) "Data input/output: Bidirectional data bus.", L2 CA0 (in) "Command/address inputs: Provide the command and address inputs according to the command truth table.", L3 CA1 (in) "Command/address inputs: Provide the command and address inputs according to the command truth table.", L4 CA2 (in) "Command/address inputs: Provide the command and address inputs according to the command truth table.", L13 DQ23 (io) "Data input/output: Bidirectional data bus.", L14 DM2 (in) "Input data mask: DM is an input mask signal for write data. Although DM balls are input-only, the DM loading is designed to match that of DQ and DQS balls. DM[3:0] is DM for each of the four data bytes, respectively.", L15 DQ0 (io) "Data input/output: Bidirectional data bus.", L16 DQ1 (io) "Data input/output: Bidirectional data bus.", M13 DQ21 (io) "Data input/output: Bidirectional data bus.", M14 DQ22 (io) "Data input/output: Bidirectional data bus.", M15 DQS2# (io) "Data strobe: The data strobe is bidirectional (used for read and write data) and complementary (DQS and DQS#). It is edge-aligned output with read data and centered input with write data. DQS[3:0]/DQS[3:0]# is DQS for each (See Datasheet)", M16 DQS2 (io) "Data strobe: The data strobe is bidirectional (used for read and write data) and complementary (DQS and DQS#). It is edge-aligned output with read data and centered input with write data. DQS[3:0]/DQS[3:0]# is DQS for each (See Datasheet)", N14 DQ18 (io) "Data input/output: Bidirectional data bus.", N15 DQ19 (io) "Data input/output: Bidirectional data bus.", N16 DQ20 (io) "Data input/output: Bidirectional data bus.", P15 DQ16 (io) "Data input/output: Bidirectional data bus.", P16 DQ17 (io) "Data input/output: Bidirectional data bus."
part C pins: A1 NC "No connect: Not internally connected.", A17 NC "No connect: Not internally connected.", D8 RFU, D11 RFU, E4 RFU, H4 RFU, H13 NC "No connect: Not internally connected.", J12 RFU, M9 RFU, N8 NC "No connect: Not internally connected.", U1 NC "No connect: Not internally connected.", U17 NC "No connect: Not internally connected."
part D pins: A6 VDDCA (power) "Command/address power supply: Command/address power supply.", A7 VDD2 (power) "Core power: Supply 2.", A9 VDDCA (power) "Command/address power supply: Command/address power supply.", A10 CHA VREFCA (in) "Reference voltage: VREFCA is reference for command/address input buffers, VREFDQ is reference for DQ input buffers.", A11 VDD2 (power) "Core power: Supply 2.", A13 VDDQ (power) "DQ power supply: Isolated on the die for improved noise immunity.", A15 VDD1 (power) "Core power: Supply 1.", A16 VDD1 (power) "Core power: Supply 1.", B2 VDD1 (power) "Core power: Supply 1.", B9 VDDCA (power) "Command/address power supply: Command/address power supply.", B12 VDDQ (power) "DQ power supply: Isolated on the die for improved noise immunity.", B17 VDD2 (power) "Core power: Supply 2.", C3 VDD2 (power) "Core power: Supply 2.", C12 VDDQ (power) "DQ power supply: Isolated on the die for improved noise immunity.", C17 VDD2 (power) "Core power: Supply 2.", E1 VDDCA (power) "Command/address power supply: Command/address power supply.", E17 VDDQ (power) "DQ power supply: Isolated on the die for improved noise immunity.", G2 VDDCA (power) "Command/address power supply: Command/address power supply.", G12 VDDQ (power) "DQ power supply: Isolated on the die for improved noise immunity.", G17 VDDQ (power) "DQ power supply: Isolated on the die for improved noise immunity.", H1 VDD2 (power) "Core power: Supply 2.", H16 VDD2 (power) "Core power: Supply 2.", H17 CHB VREFDQ (in) "Reference voltage: VREFCA is reference for command/address input buffers, VREFDQ is reference for DQ input buffers.", J1 CHB VREFCA (in) "Reference voltage: VREFCA is reference for command/address input buffers, VREFDQ is reference for DQ input buffers.", K1 VDDCA (power) "Command/address power supply: Command/address power supply", K12 VDDQ (power) "DQ power supply: Isolated on the die for improved noise immunity.", K17 VDDQ (power) "DQ power supply: Isolated on the die for improved noise immunity.", L1 VDD2 (power) "Core power: Supply 2.", L17 VDDQ (power) "DQ power supply: Isolated on the die for improved noise immunity.", M2 VDDQ (power) "DQ power supply: Isolated on the die for improved noise immunity.", M3 VDDQ (power) "DQ power supply: Isolated on the die for improved noise immunity.", M7 VDDQ (power) "DQ power supply: Isolated on the die for improved noise immunity.", M10 VDDQ (power) "DQ power supply: Isolated on the die for improved noise immunity.", M12 VDDQ (power) "DQ power supply: Isolated on the die for improved noise immunity.", N1 VDDQ (power) "DQ power supply: Isolated on the die for improved noise immunity.", P17 VDDQ (power) "DQ power supply: Isolated on the die for improved noise immunity.", R1 VDD1 (power) "Core power: Supply 1.", R15 VDD2 (power) "Core power: Supply 2.", T1 VDD1 (power) "Core power: Supply 1.", T8 VDD2 (power) "Core power: Supply 2.", T16 VDD1 (power) "Core power: Supply 1.", U2 VDD2 (power) "Core power: Supply 2.", U3 VDD2 (power) "Core power: Supply 2.", U5 VDDQ (power) "DQ power supply: Isolated on the die for improved noise immunity.", U7 VDDQ (power) "DQ power supply: Isolated on the die for improved noise immunity.", U8 CHA VREFDQ (in) "Reference voltage: VREFCA is reference for command/address input buffers, VREFDQ is reference for DQ input buffers.", U10 VDDQ (power) "DQ power supply: Isolated on the die for improved noise immunity.", U11 VDDQ (power) "DQ power supply: Isolated on the die for improved noise immunity.", U14 VDDQ (power) "DQ power supply: Isolated on the die for improved noise immunity."
part E pins: A2 VSS (power) "Common ground", A3 VSS (power) "Common ground", A4 VSS (power) "Common ground", A5 VSS (power) "Common ground", A8 VSS (power) "Common ground", A12 VSS (power) "Common ground", A14 VSS (power) "Common ground", B1 VSS (power) "Common ground", B3 VSS (power) "Common ground", B4 VSS (power) "Common ground", C1 VSS (power) "Common ground", C2 VSS (power) "Common ground", C4 VSS (power) "Common ground", D1 VSS (power) "Common ground", D2 VSS (power) "Common ground", D3 VSS (power) "Common ground", D4 VSS (power) "Common ground", D12 VSS (power) "Common ground", D17 VSS (power) "Common ground", E5 VSS (power) "Common ground", E6 VSS (power) "Common ground", E7 VSS (power) "Common ground", E8 VSS (power) "Common ground", E9 VSS (power) "Common ground", E10 VSS (power) "Common ground", E11 VSS (power) "Common ground", E12 VSS (power) "Common ground", F1 VSS (power) "Common ground", F5 VSS (power) "Common ground", F12 VSS (power) "Common ground", F17 VSS (power) "Common ground", G1 VSS (power) "Common ground", G5 VSS (power) "Common ground", G15 VSS (power) "Common ground", G16 VSS (power) "Common ground", H5 VSS (power) "Common ground", H12 VSS (power) "Common ground", H15 VSS (power) "Common ground", J5 VSS (power) "Common ground", J17 VSS (power) "Common ground", K5 VSS (power) "Common ground", L5 VSS (power) "Common ground", L12 VSS (power) "Common ground", M1 VSS (power) "Common ground", M4 VSS (power) "Common ground", M5 VSS (power) "Common ground", M6 VSS (power) "Common ground", M8 VSS (power) "Common ground", M11 VSS (power) "Common ground", M17 VSS (power) "Common ground", N13 VSS (power) "Common ground", N17 VSS (power) "Common ground", P1 VSS (power) "Common ground", P14 VSS (power) "Common ground", R7 VSS (power) "Common ground", R8 VSS (power) "Common ground", R16 VSS (power) "Common ground", R17 VSS (power) "Common ground", T7 VSS (power) "Common ground", T15 VSS (power) "Common ground", T17 VSS (power) "Common ground", U4 VSS (power) "Common ground", U6 VSS (power) "Common ground", U9 VSS (power) "Common ground", U12 VSS (power) "Common ground", U13 VSS (power) "Common ground", U15 VSS (power) "Common ground", U16 VSS (power) "Common ground"